# EAGLE library part 63100811021 (library Wuerth_Elektronik_eiCan_Communication_Connectors_v2.2)
WR-COM Horizontal Half Shielded Mini DIN, 8 pins
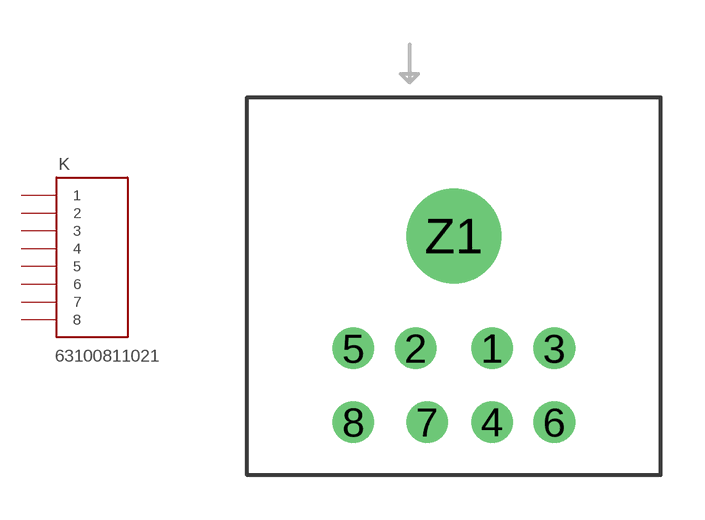
[diagram p8: symbol with the pads of 63100811021; footprint 63100811021]

Designator prefix K

## 63100811021  [63100811021]
1  1  pas
2  2  pas
3  3  pas
4  4  pas
5  5  pas
6  6  pas
7  7  pas
8  8  pas

## Footprint 63100811021 (pad centres in mm)
WR-COM Horizontal Half Shielded Mini DIN, 8 pins
drill 0.9: 1 1.3,-8.5; 2 -1.29,-8.5; 3 3.405,-8.5; 4 1.3,-11; 5 -3.405,-8.5; 6 3.405,-11; 7 -0.9,-11; 8 -3.405,-11
drill 2.2: Z1 0,-4.7